# EAGLE library part QSOP16_FOOTPRINT (library PACKAGES FOR TEST BOARDS)
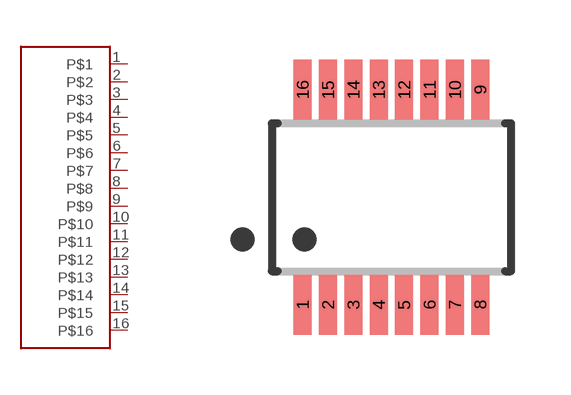
[diagram p1: symbol with the pads of QSOP-16; footprint QSOP-16]

Designator prefix -

## QSOP16_FOOTPRINT  [QSOP-16]
1  P$1  out
2  P$2  out
3  P$3  out
4  P$4  out
5  P$5  out
6  P$6  out
7  P$7  out
8  P$8  out
9  P$9  out
10  P$10  out
11  P$11  out
12  P$12  out
13  P$13  out
14  P$14  out
15  P$15  out
16  P$16  out

## Footprint QSOP-16 (pad centres in mm)
smd 0.45 x 1.5: 1 -3.493,-2.69; 2 -2.857,-2.69; 3 -2.223,-2.69; 4 -1.587,-2.69; 5 -0.953,-2.69; 6 -0.318,-2.69; 7 0.318,-2.69; 8 0.953,-2.69; 9 0.953,2.69; 10 0.318,2.69; 11 -0.318,2.69; 12 -0.953,2.69; 13 -1.587,2.69; 14 -2.223,2.69; 15 -2.857,2.69; 16 -3.493,2.69